# Altium schematic symbol library MAX262ACWG&plus_.SchLib: 2 symbols
Pins are listed as number, name and electrical type; pins without a type are passive.

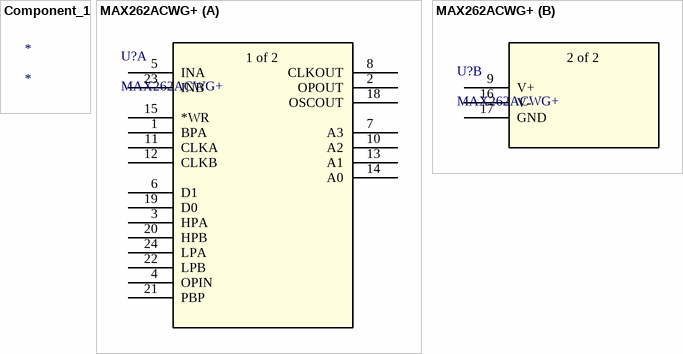
[diagram p0: symbols Component_1 to MAX262ACWG+]

## Component_1
designator *

## MAX262ACWG+
designator U?
No Description Available; Mfr_Name: Maxim Integrated Products; Copyright: Copyright (C) 2022 Ultra Librarian. All rights reserved.; Manufacturer_Part_Number: MAX262ACWG+; RefDes: RefDes; Type: DEV
footprint 21-0042B_24_MXM
part A pins: 1 BPA, 2 OPOUT, 3 HPA, 4 OPIN, 5 INA, 6 D1, 7 A3, 8 CLKOUT, 10 A2, 11 CLKA, 12 CLKB, 13 A1, 14 A0, 15 *WR, 18 OSCOUT, 19 D0, 20 HPB, 21 PBP, 22 LPB, 23 INB, 24 LPA
part B pins: 9 V+ (power), 16 V- (power), 17 GND (power)
part A text: 1 of 2
part B text: 2 of 2